# EAGLE library part ASM_ADAFRUIT_MAX98306_AMP (library HUM-ASM-001)
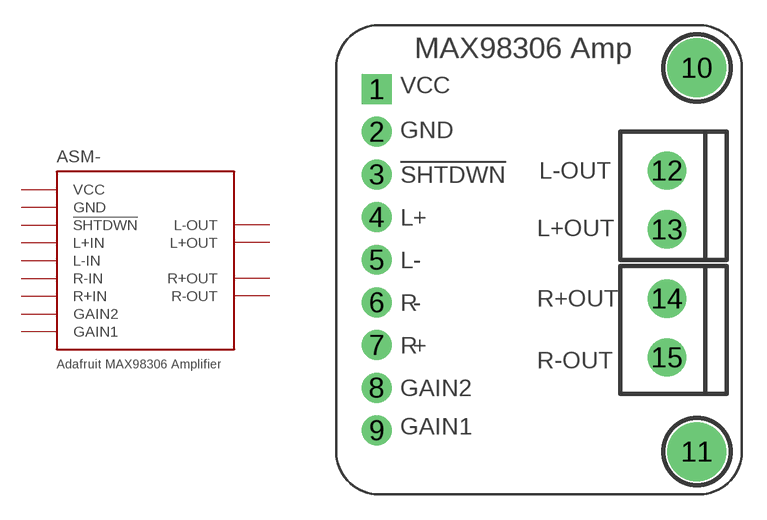
[diagram p1: symbol with the pads of ASM_ADAFRUIT_MAX98306_AMP_MOUNTING_HOLES; footprint ASM_ADAFRUIT_MAX98306_AMP_MOUNTING_HOLES]

Designator prefix ASM-

## ASM_ADAFRUIT_MAX98306_AMP  [ASM_ADAFRUIT_MAX98306_AMP_MOUNTING_HOLES]
1  VCC  pwr
2  GND  pwr
3  !SHTDWN  in
4  L+IN  in
5  L-IN  in
6  R-IN  in
7  R+IN  in
8  GAIN2  pas
9  GAIN1  pas
12  L-OUT  out
13  L+OUT  out
14  R+OUT  out
15  R-OUT  out

## Footprint ASM_ADAFRUIT_MAX98306_AMP_MOUNTING_HOLES (pad centres in mm)
drill 1 pad 1.778 square: 1 -8.89,10.16
drill 1 pad 1.778: 2 -8.89,7.62; 3 -8.89,5.08; 4 -8.89,2.54; 5 -8.89,0; 6 -8.89,-2.54; 7 -8.89,-5.08; 8 -8.89,-7.62; 9 -8.89,-10.16
drill 2.5 pad 3.2: 10 10.16,11.43; 11 10.16,-11.43
drill 1.194 pad 2.286: 12 8.382,5.309; 13 8.382,1.803; 14 8.382,-2.311; 15 8.382,-5.817